# EAGLE library part MHDR1X14_1 (library Moo1.2)
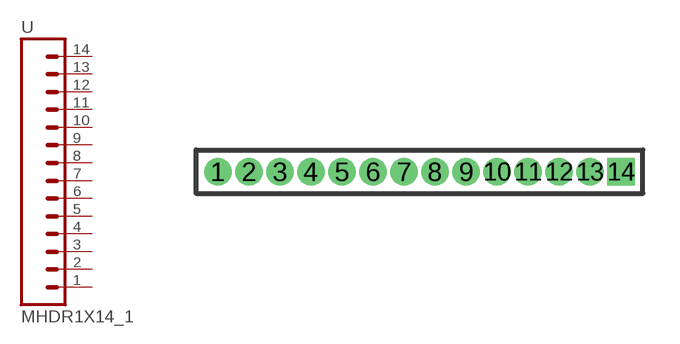
[diagram p1: symbol with the pads of MHDR1X14_1PRIMARY; footprint MHDR1X14_1PRIMARY]

Designator prefix -

## MHDR1X14_1  [MHDR1X14_1PRIMARY]
1  1  pas
2  2  pas
3  3  pas
4  4  pas
5  5  pas
6  6  pas
7  7  pas
8  8  pas
9  9  pas
10  10  pas
11  11  pas
12  12  pas
13  13  pas
14  14  pas

## Footprint MHDR1X14_1PRIMARY (pad centres in mm)
Original name MHDR1X14
drill 0.61 pad 0.991: 1 0,0; 2 1.27,0; 3 2.54,0; 4 3.81,0; 5 5.08,0; 6 6.35,0; 7 7.62,0; 8 8.89,0; 9 10.16,0; 10 11.43,0; 11 12.7,0; 12 13.97,0; 13 15.24,0
drill 0.61 pad 0.991 square: 14 16.51,0